# EAGLE library part MIC23050-GYML-TR (library gothack-made)
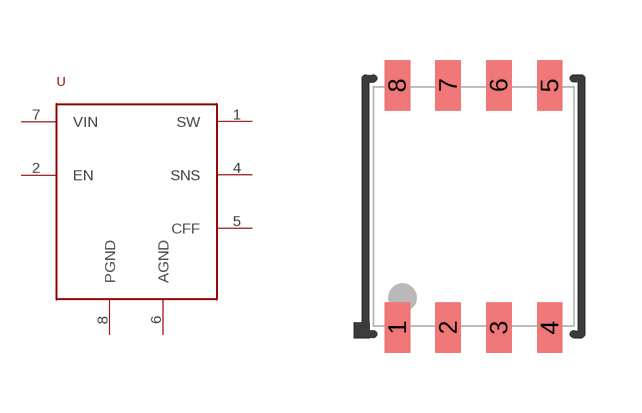
[diagram p3: symbol with the pads of VDFN-8M1-A; footprint VDFN-8M1-A]

Designator prefix -

## MIC23050-GYML-TR  [VDFN-8M1-A]
1  SW
2  EN
4  SNS
5  CFF
6  AGND
7  VIN
8  PGND

## Footprint VDFN-8M1-A (pad centres in mm)
VDFN 8-pad - Very Thin Dual Flat Package 6 x 5 x 1.00 mm Body
smd 0.635 x 1.27: 1 -1.905,-3.032; 2 -0.635,-3.032; 3 0.635,-3.032; 4 1.905,-3.032; 5 1.905,3.032; 6 0.635,3.032; 7 -0.635,3.032; 8 -1.905,3.032